# EAGLE library part BQ76PL536 (library ti)
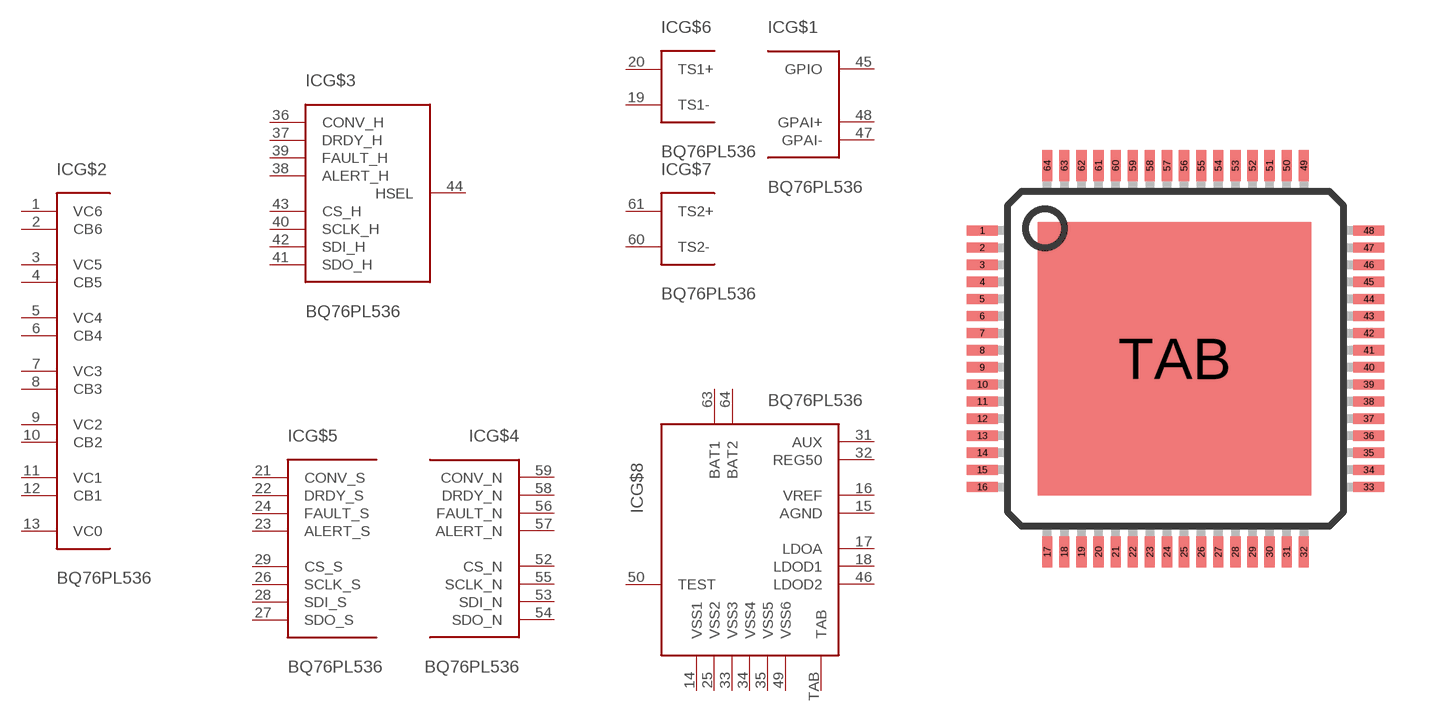
[diagram p12: symbol with the pads of LQFP-64; footprint LQFP-64]

Designator prefix IC; gates G$1=BQ75PL536_GPIO G$2=BQ76PL536_BALANCING G$3=BQ76PL536_HOST G$4=BQ76PL536_NORTH G$5=BQ76PL536_SOUTH G$6=BQ76PL536_TEMP_1 G$7=BQ76PL536_TEMP_2 G$8=BQ76PL536_VERS

## BQ76PL536  [LQFP-64]
1  G$2:VC6
2  G$2:CB6
3  G$2:VC5
4  G$2:CB5
5  G$2:VC4
6  G$2:CB4
7  G$2:VC3
8  G$2:CB3
9  G$2:VC2
10  G$2:CB2
11  G$2:VC1
12  G$2:CB1
13  G$2:VC0
14  G$8:VSS1
15  G$8:AGND
16  G$8:VREF
17  G$8:LDOA
18  G$8:LDOD1
19  G$6:TS1-
20  G$6:TS1+
21  G$5:CONV_S
22  G$5:DRDY_S
23  G$5:ALERT_S
24  G$5:FAULT_S
25  G$8:VSS2
26  G$5:SCLK_S
27  G$5:SDO_S
28  G$5:SDI_S
29  G$5:CS_S
31  G$8:AUX
32  G$8:REG50
33  G$8:VSS3
34  G$8:VSS4
35  G$8:VSS5
36  G$3:CONV_H
37  G$3:DRDY_H
38  G$3:ALERT_H
39  G$3:FAULT_H
40  G$3:SCLK_H
41  G$3:SDO_H
42  G$3:SDI_H
43  G$3:CS_H
44  G$3:HSEL
45  G$1:GPIO
46  G$8:LDOD2
47  G$1:GPAI-
48  G$1:GPAI+
49  G$8:VSS6
50  G$8:TEST
52  G$4:CS_N
53  G$4:SDI_N
54  G$4:SDO_N
55  G$4:SCLK_N
56  G$4:FAULT_N
57  G$4:ALERT_N
58  G$4:DRDY_N
59  G$4:CONV_N
60  G$7:TS2-
61  G$7:TS2+
63  G$8:BAT1
64  G$8:BAT2
TAB  G$8:TAB

## Footprint LQFP-64 (pad centres in mm)
smd 0.9 x 0.3: 1 -5.625,3.75; 2 -5.625,3.25; 3 -5.625,2.75; 4 -5.625,2.25; 5 -5.625,1.75; 6 -5.625,1.25; 7 -5.625,0.75; 8 -5.625,0.25; 9 -5.625,-0.25; 10 -5.625,-0.75; 11 -5.625,-1.25; 12 -5.625,-1.75; 13 -5.625,-2.25; 14 -5.625,-2.75; 15 -5.625,-3.25; 16 -5.625,-3.75; 33 5.675,-3.75; 34 5.675,-3.25; 35 5.675,-2.75; 36 5.675,-2.25; 37 5.675,-1.75; 38 5.675,-1.25; 39 5.675,-0.75; 40 5.675,-0.25; 41 5.675,0.25; 42 5.675,0.75; 43 5.675,1.25; 44 5.675,1.75; 45 5.675,2.25; 46 5.675,2.75; 47 5.675,3.25; 48 5.675,3.75
smd 0.3 x 0.9: 17 -3.725,-5.65; 18 -3.225,-5.65; 19 -2.725,-5.65; 20 -2.225,-5.65; 21 -1.725,-5.65; 22 -1.225,-5.65; 23 -0.725,-5.65; 24 -0.225,-5.65; 25 0.275,-5.65; 26 0.775,-5.65; 27 1.275,-5.65; 28 1.775,-5.65; 29 2.275,-5.65; 30 2.775,-5.65; 31 3.275,-5.65; 32 3.775,-5.65; 49 3.775,5.65; 50 3.275,5.65; 51 2.775,5.65; 52 2.275,5.65; 53 1.775,5.65; 54 1.275,5.65; 55 0.775,5.65; 56 0.275,5.65; 57 -0.225,5.65; 58 -0.725,5.65; 59 -1.225,5.65; 60 -1.725,5.65; 61 -2.225,5.65; 62 -2.725,5.65; 63 -3.225,5.65; 64 -3.725,5.65
smd 8 x 8: TAB 0,0